# Altium footprint library 数码管0.4x2.PcbLib: 8 footprints
Each footprint in its own frame and in the unit in brackets; x right, y up, seen from the top. Pads: shape width x height; smd on the part's side, far side on the other; paste and mask are expansions set on the pad; w line width, h text height; cw(c..) or ccw(c..) is an arc to the next point about the centre after c.
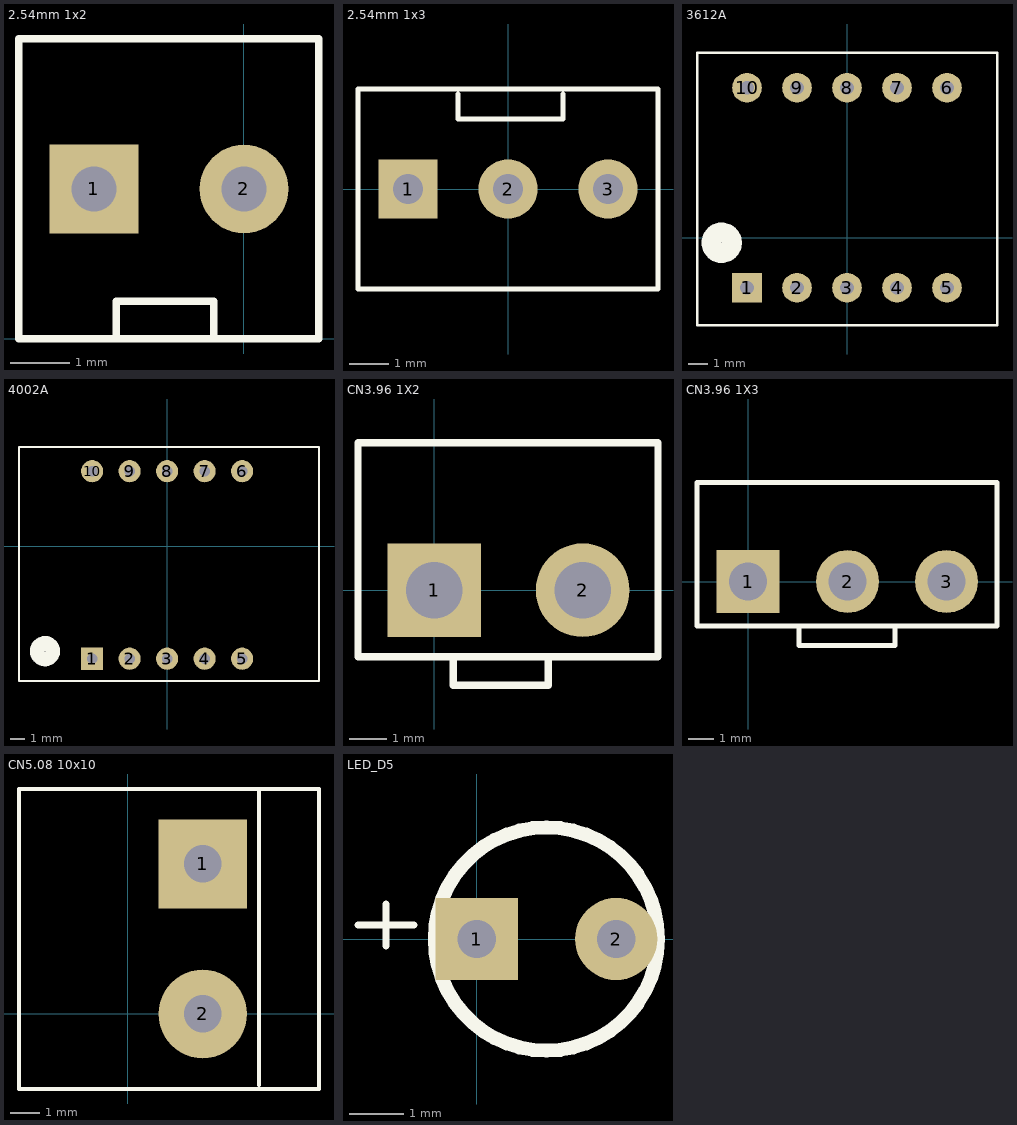
[diagram p0: the footprints below, top view; thin cyan lines are the x and y axes]

## 2.54mm 1x2 [mm]
pads (2):
  rect 1.5x1.5 hole 0.762: 1(-2.54,2.54)
  round 1.5 hole 0.762: 2(0,2.54)
Top Overlay:
  lines w0.127: -2.159,0 -2.159,0.635 -0.508,0.635 -0.508,0 ; -3.81,0 1.27,0 1.27,5.08 -3.81,5.08 -3.81,0

## 2.54mm 1x3  [mm]
pads (3):
  rect 1.5x1.5 hole 0.762: 1(-2.54,0)
  round 1.5 hole 0.762: 2(0,0) 3(2.54,0)
Top Overlay:
  lines w0.127: -1.27,2.413 -1.27,1.778 1.397,1.778 1.397,2.413 ; -3.81,-2.54 3.81,-2.54 3.81,2.54 -3.81,2.54 -3.81,-2.54

## 3612A [mm]
pads (10):
  rect 1.5x1.5 hole 0.7: 1(-5.08,-2.54)
  round 1.5 hole 0.7: 2(-2.54,-2.54) 3(0,-2.54) 4(2.54,-2.54) 5(5.08,-2.54) 6(5.08,7.62) 7(2.54,7.62) 8(0,7.62) 9(-2.54,7.62) 10(-5.08,7.62)
Top Overlay:
  circle w1: c-6.366,-0.254 r0.524
  lines w0.127: -7.62,-4.445 -7.62,9.398 7.62,9.398 7.62,-4.445 -7.62,-4.445

## 4002A [mm]
pads (10):
  rect 1.5x1.5 hole 0.7: 1(-5.08,-7.62)
  round 1.5 hole 0.7: 2(-2.54,-7.62) 3(0,-7.62) 4(2.54,-7.62) 5(5.08,-7.62) 6(5.08,5.08) 7(2.54,5.08) 8(0,5.08) 9(-2.54,5.08) 10(-5.08,5.08)
Top Overlay:
  circle w1: c-8.271,-7.112 r0.524
  lines w0.127: -10.033,-9.144 -10.033,6.731 10.287,6.731 10.287,-9.144 -10.033,-9.144

## CN3.96 1X2 [mm]
pads (2):
  rect 2.5x2.5 hole 1.5: 1(0,0)
  round 2.5 hole 1.5: 2(3.96,0)
Top Overlay:
  lines w0.2: 0.508,-1.778 0.508,-2.54 3.048,-2.54 3.048,-1.778 ; -2.032,-1.778 -2.032,3.937 5.969,3.937 5.969,-1.778 -2.032,-1.778

## CN3.96 1X3 [mm]
pads (3):
  rect 2.5x2.5 hole 1.5: 1(0,0)
  round 2.5 hole 1.5: 2(3.96,0) 3(7.897,0)
Top Overlay:
  lines w0.2: 2.032,-1.778 2.032,-2.54 5.842,-2.54 5.842,-1.778 ; -2.032,-1.778 9.906,-1.778 9.906,3.937 -2.032,3.937 -2.032,-1.778

## CN5.08 10x10 [mm]
pads (2):
  rect 3x3 hole 1.27: 1(2.54,5.08)
  round 3 hole 1.27: 2(2.54,0)
Top Overlay:
  lines w0.127: 4.445,-2.413 4.445,7.62 ; -3.683,-2.54 6.477,-2.54 6.477,7.62 -3.683,7.62 -3.683,-2.54

## LED_D5 [mm]
pads (2):
  rect 1.5x1.5 hole 0.7: 1(0,0)
  round 1.5 hole 0.7: 2(2.54,0)
Top Overlay:
  circle w0.254: c1.27,0 r2.032
  lines w0.127: -2.159,0.254 -1.143,0.254 ; -1.651,-0.127 -1.651,0.635